# EAGLE library part X_PROTALAB (library XProtolab)
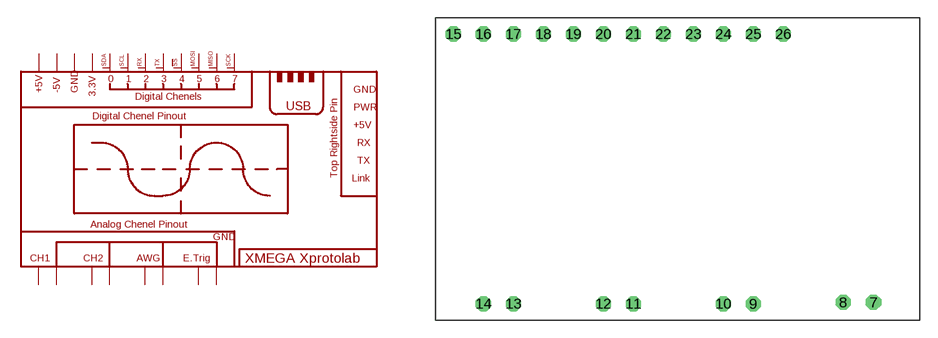
[diagram p0: symbol with the pads of XPROTOLAB; footprint XPROTOLAB]

Designator prefix -

## X_PROTALAB  [XPROTOLAB]
7  7
8  8
9  9
10  10
11  11
12  12
13  13
14  14
15  15
16  16
17  17
18  18
19  19
20  20
21  21
22  22
23  23
24  24
25  25
26  26

## Footprint XPROTOLAB (pad centres in mm)
drill 0.8 octagon: 7 37.084,1.524; 8 34.544,1.524; 9 26.924,1.397; 10 24.384,1.397; 11 16.764,1.397; 12 14.224,1.397; 13 6.604,1.397; 14 4.064,1.397; 15 1.524,24.257; 16 4.064,24.257; 17 6.604,24.257; 18 9.144,24.257; 19 11.684,24.257; 20 14.224,24.257; 21 16.764,24.257; 22 19.304,24.257; 23 21.844,24.257; 24 24.384,24.257; 25 26.924,24.257; 26 29.464,24.257